# EAGLE library part NRF24-MODULE (library msp430-nrf-wsn-lib)
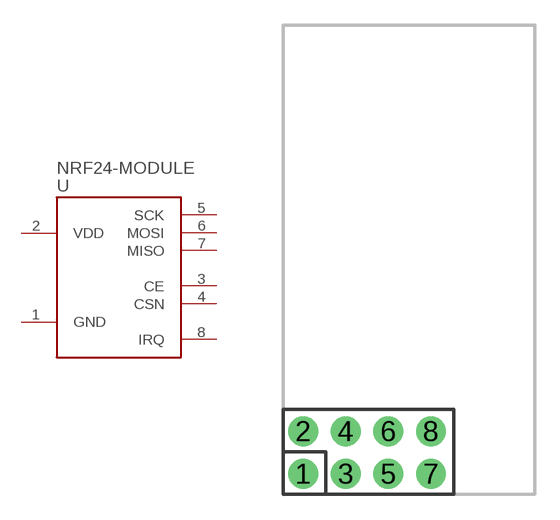
[diagram p0: symbol with the pads of NRF24-MODULE; footprint NRF24-MODULE]

Designator prefix U

## NRF24-MODULE  [NRF24-MODULE]
1  GND
2  VDD
3  CE
4  CSN
5  SCK
6  MOSI
7  MISO
8  IRQ

## Footprint NRF24-MODULE (pad centres in mm)
PIN HEADER
drill 1.016 pad 1.778: 1 1.19,1.23; 2 1.19,3.77; 3 3.73,1.23; 4 3.73,3.77; 5 6.27,1.23; 6 6.27,3.77; 7 8.81,1.23; 8 8.81,3.77